# EAGLE library part TI-DRV8814 (library Rover_bib)
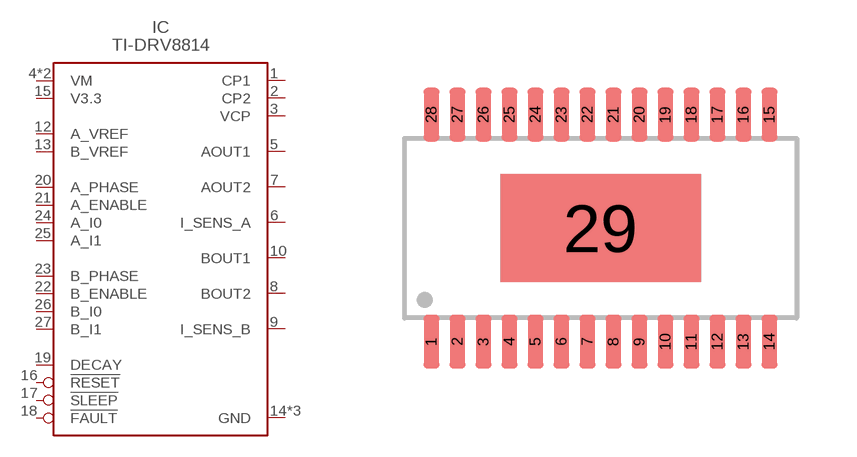
[diagram p6: symbol with the pads of SOP29P65_970X640X120L60X24T500X270N; footprint SOP29P65_970X640X120L60X24T500X270N]

Designator prefix IC

## TI-DRV8814PW  [SOP29P65_970X640X120L60X24T500X270N]
1  CP1
2  CP2
3  VCP  in
4  VM  sup
5  AOUT1  out
6  I_SENS_A  out
7  AOUT2  out
8  BOUT2  out
9  I_SENS_B  out
10  BOUT1  out
11  VM  sup
12  A_VREF  in
13  B_VREF  in
14  GND  sup
15  V3.3  sup
16  !RESET  in
17  !SLEEP  in
18  !FAULT  oc
19  DECAY  in
20  A_PHASE  in
21  A_ENABLE  in
22  B_ENABLE  in
23  B_PHASE  in
24  A_I0  in
25  A_I1  in
26  B_I0  in
27  B_I1  in
28  GND  sup
29  GND  sup

## Footprint SOP29P65_970X640X120L60X24T500X270N (pad centres in mm)
Small Outline Pkg (SOP with Tab), 0.65 mm pitch; 28 pin, 9.70 mm L X 4.40 mm W X 1.20 mm H body PCB Libraries Packages
smd 0.39 x 1.34: 1 -4.225,-2.84; 2 -3.575,-2.84; 3 -2.925,-2.84; 4 -2.275,-2.84; 5 -1.625,-2.84; 6 -0.975,-2.84; 7 -0.325,-2.84; 8 0.325,-2.84; 9 0.975,-2.84; 10 1.625,-2.84; 11 2.275,-2.84; 12 2.925,-2.84; 13 3.575,-2.84; 14 4.225,-2.84; 15 4.225,2.84; 16 3.575,2.84; 17 2.925,2.84; 18 2.275,2.84; 19 1.625,2.84; 20 0.975,2.84; 21 0.325,2.84; 22 -0.325,2.84; 23 -0.975,2.84; 24 -1.625,2.84; 25 -2.275,2.84; 26 -2.925,2.84; 27 -3.575,2.84; 28 -4.225,2.84
smd 5 x 2.7: 29 0,0